# Altium footprint library qfp_footp.PcbLib: 36 footprints (part 2 of 4)
Each footprint in its own frame and in the unit in brackets; x right, y up, seen from the top. Pads: shape width x height; smd on the part's side, far side on the other; paste and mask are expansions set on the pad; w line width, h text height; cw(c..) or ccw(c..) is an arc to the next point about the centre after c.
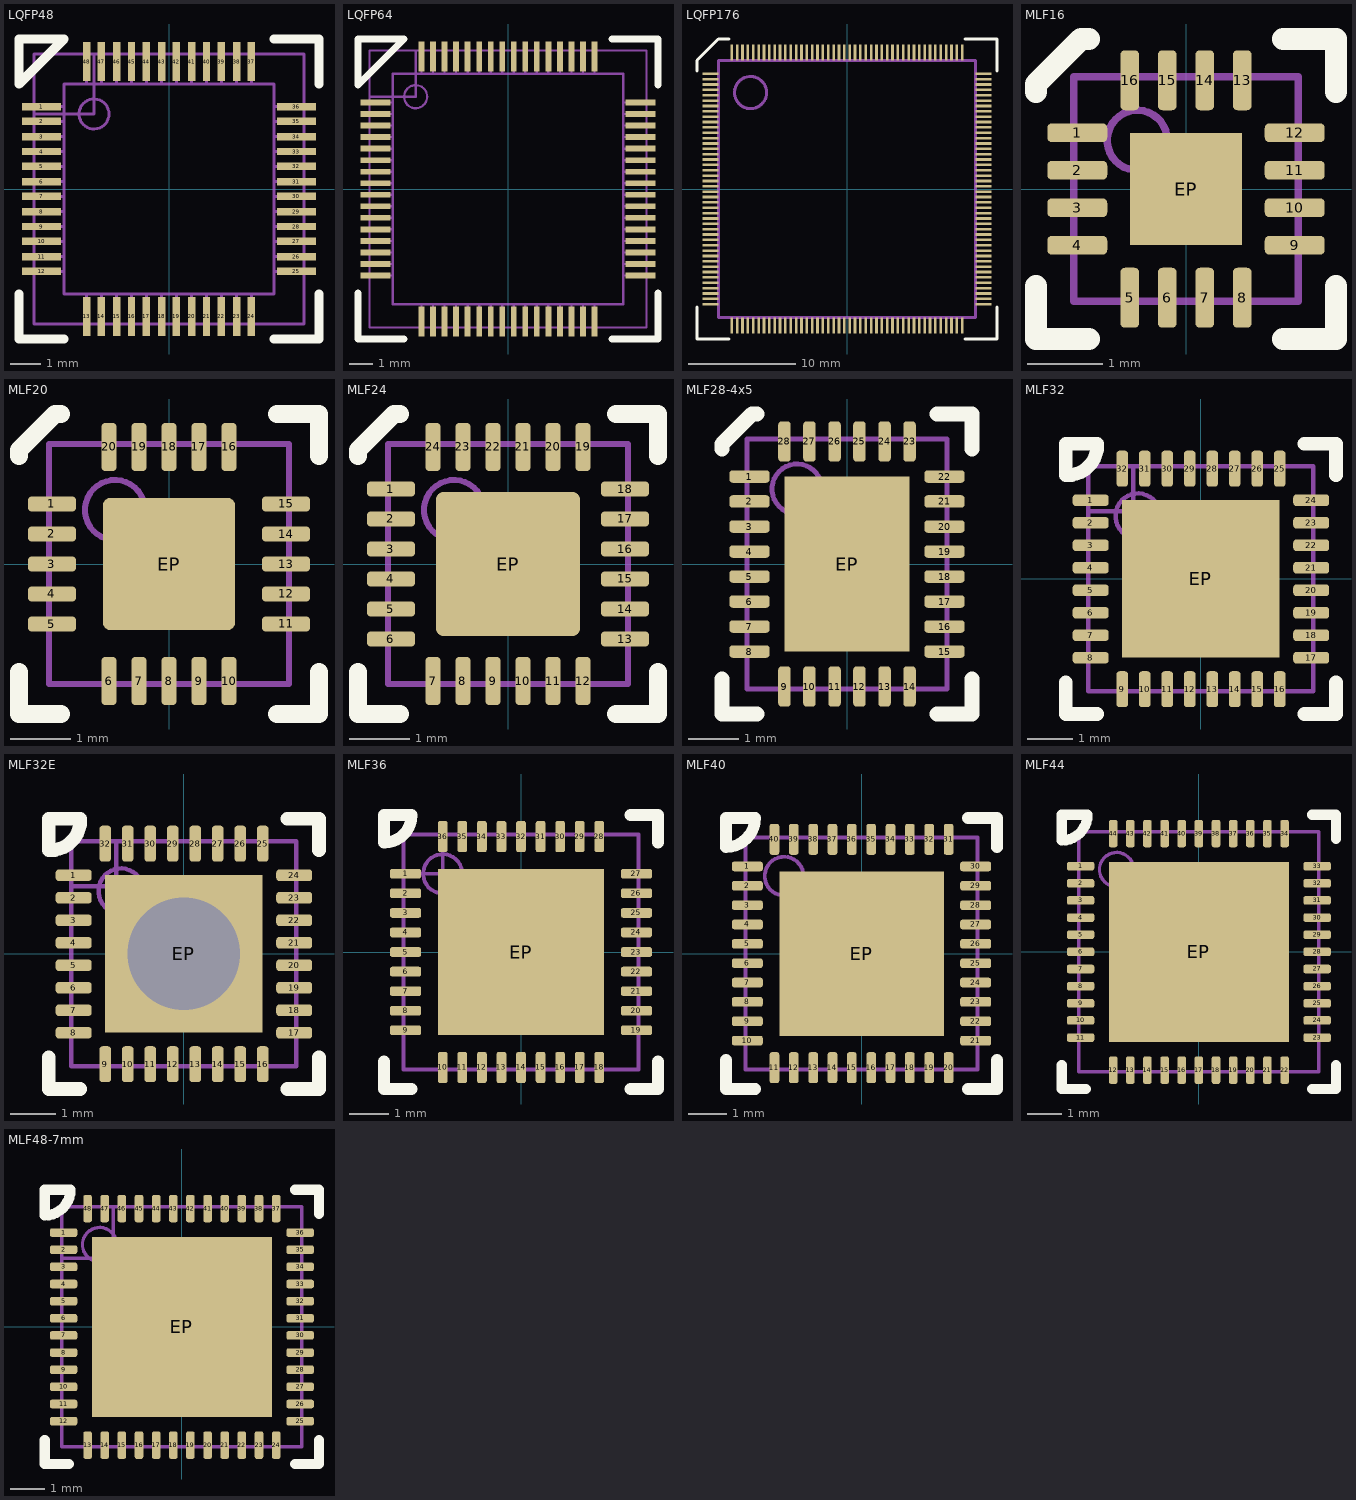
[diagram p1: the footprints below, top view; thin cyan lines are the x and y axes]

## LQFP48 [mm] "0.5 mm pitch"
height 1.6
pads (48):
  rect 1.3x0.25 smd: 1(-4.25,2.75) 2(-4.25,2.25) 3(-4.25,1.75) 4(-4.25,1.25) 5(-4.25,0.75) 6(-4.25,0.25) 7(-4.25,-0.25) 8(-4.25,-0.75) 9(-4.25,-1.25) 10(-4.25,-1.75) 11(-4.25,-2.25) 12(-4.25,-2.75) 25(4.25,-2.75) 26(4.25,-2.25) 27(4.25,-1.75) 28(4.25,-1.25) 29(4.25,-0.75) 30(4.25,-0.25) 31(4.25,0.25) 32(4.25,0.75) 33(4.25,1.25) 34(4.25,1.75) 35(4.25,2.25) 36(4.25,2.75)
  rect 0.25x1.3 smd: 13(-2.75,-4.25) 14(-2.25,-4.25) 15(-1.75,-4.25) 16(-1.25,-4.25) 17(-0.75,-4.25) 18(-0.25,-4.25) 19(0.25,-4.25) 20(0.75,-4.25) 21(1.25,-4.25) 22(1.75,-4.25) 23(2.25,-4.25) 24(2.75,-4.25) 37(2.75,4.25) 38(2.25,4.25) 39(1.75,4.25) 40(1.25,4.25) 41(0.75,4.25) 42(0.25,4.25) 43(-0.25,4.25) 44(-0.75,4.25) 45(-1.25,4.25) 46(-1.75,4.25) 47(-2.25,4.25) 48(-2.75,4.25)
Top Overlay:
  lines w0.3: -5,-3.5 -5,-5 -3.5,-5 ; 3.5,-5 5,-5 5,-3.5 ; 3.5,5 5,5 5,3.5 ; -5,3.5 -5,5 -3.5,5 -5,3.5
Mechanical 1:
  circle w0.1: c-2.5,2.5 r0.5
  lines w0.1: -4.5,-2.75 -3.5,-2.75 ; -4.5,-2.25 -3.5,-2.25 ; -4.5,-1.75 -3.5,-1.75 ; -4.5,-1.25 -3.5,-1.25 ; -4.5,-0.75 -3.5,-0.75 ; -4.5,-0.25 -3.5,-0.25 ; -4.5,0.25 -3.5,0.25 ; -4.5,0.75 -3.5,0.75 ; -4.5,1.25 -3.5,1.25 ; -4.5,1.75 -3.5,1.75 ; -4.5,2.25 -3.5,2.25 ; -4.5,2.75 -3.5,2.75 ; -2.75,-4.5 -2.75,-3.5 ; -2.75,3.5 -2.75,4.5 ; -2.25,-4.5 -2.25,-3.5 ; -2.25,3.5 -2.25,4.5 ; -1.75,-4.5 -1.75,-3.5 ; -1.75,3.5 -1.75,4.5 ; -1.25,-4.5 -1.25,-3.5 ; -1.25,3.5 -1.25,4.5 ; -0.75,-4.5 -0.75,-3.5 ; -0.75,3.5 -0.75,4.5 ; -0.25,-4.5 -0.25,-3.5 ; -0.25,3.5 -0.25,4.5 ; 0.25,-4.5 0.25,-3.5 ; 0.25,3.5 0.25,4.5 ; 0.75,-4.5 0.75,-3.5 ; 0.75,3.5 0.75,4.5 ; 1.25,-4.5 1.25,-3.5 ; 1.25,3.5 1.25,4.5 ; 1.75,-4.5 1.75,-3.5 ; 1.75,3.5 1.75,4.5 ; 2.25,-4.5 2.25,-3.5 ; 2.25,3.5 2.25,4.5 ; 2.75,-4.5 2.75,-3.5 ; 2.75,3.5 2.75,4.5 ; 3.5,-2.75 4.5,-2.75 ; 3.5,-2.25 4.5,-2.25 ; 3.5,-1.75 4.5,-1.75 ; 3.5,-1.25 4.5,-1.25 ; 3.5,-0.75 4.5,-0.75 ; 3.5,-0.25 4.5,-0.25 ; 3.5,0.25 4.5,0.25 ; 3.5,0.75 4.5,0.75 ; 3.5,1.25 4.5,1.25 ; 3.5,1.75 4.5,1.75 ; 3.5,2.25 4.5,2.25 ; 3.5,2.75 4.5,2.75 ; -3.5,-3.5 -3.5,3.5 3.5,3.5 3.5,-3.5 -3.5,-3.5
Mechanical 5:
  lines w0.1: -4.5,2.5 -2.5,2.5 -2.5,4.5 ; -4.5,-4.5 -4.5,4.5 4.5,4.5 4.5,-4.5 -4.5,-4.5
  text ".Designator" at -1.5,-1 h1.5
Mechanical 6:
  lines w0.1: -4.5,2.5 -2.5,2.5 -2.5,4.5 ; -4.5,-4.5 4.5,-4.5 4.5,4.5 -4.5,4.5 -4.5,-4.5
  text ".Comment" at -1.5,-1 h1.5
3D body: height 0.75, standoff 0, extent -4.5,2.65 -2.802,2.85
3D body: height 1.6, standoff 0.2, extent -3.5,-3.5 3.5,3.5
3D body: height 0.75, standoff 0, extent -4.5,2.15 -2.802,2.35
3D body: height 0.75, standoff 0, extent -4.5,1.15 -2.802,1.35
3D body: height 0.75, standoff 0, extent -4.5,1.65 -2.802,1.85
3D body: height 0.75, standoff 0, extent -4.5,-0.35 -2.802,-0.15
3D body: height 0.75, standoff 0, extent -4.5,-0.85 -2.802,-0.65
3D body: height 0.75, standoff 0, extent -4.5,0.15 -2.802,0.35
3D body: height 0.75, standoff 0, extent -4.5,0.65 -2.802,0.85
3D body: height 0.75, standoff 0, extent 1.15,-4.5 1.35,-2.802
3D body: height 0.75, standoff 0, extent 1.65,-4.5 1.85,-2.802
3D body: height 0.75, standoff 0, extent 2.65,-4.5 2.85,-2.802
3D body: height 0.75, standoff 0, extent 2.15,-4.5 2.35,-2.802
3D body: height 0.75, standoff 0, extent -0.85,-4.5 -0.65,-2.802
3D body: height 0.75, standoff 0, extent -0.35,-4.5 -0.15,-2.802
3D body: height 0.75, standoff 0, extent 0.65,-4.5 0.85,-2.802
3D body: height 0.75, standoff 0, extent 0.15,-4.5 0.35,-2.802
3D body: height 0.75, standoff 0, extent -1.85,-4.5 -1.65,-2.802
3D body: height 0.75, standoff 0, extent -1.35,-4.5 -1.15,-2.802
3D body: height 0.75, standoff 0, extent -2.35,-4.5 -2.15,-2.802
3D body: height 0.75, standoff 0, extent -2.85,-4.5 -2.65,-2.802
3D body: height 0.75, standoff 0, extent 2.802,1.15 4.5,1.35
3D body: height 0.75, standoff 0, extent 2.802,1.65 4.5,1.85
3D body: height 0.75, standoff 0, extent 2.802,2.65 4.5,2.85
3D body: height 0.75, standoff 0, extent 2.802,2.15 4.5,2.35
3D body: height 0.75, standoff 0, extent 2.802,-0.85 4.5,-0.65
3D body: height 0.75, standoff 0, extent 2.802,-0.35 4.5,-0.15
3D body: height 0.75, standoff 0, extent 2.802,0.65 4.5,0.85
3D body: height 0.75, standoff 0, extent 2.802,0.15 4.5,0.35
3D body: height 0.75, standoff 0, extent 2.802,-2.85 4.5,-2.65
3D body: height 0.75, standoff 0, extent 2.802,-2.35 4.5,-2.15
3D body: height 0.75, standoff 0, extent 2.802,-1.35 4.5,-1.15
3D body: height 0.75, standoff 0, extent 2.802,-1.85 4.5,-1.65
3D body: height 0.75, standoff 0, extent -1.35,2.802 -1.15,4.5
3D body: height 0.75, standoff 0, extent -1.85,2.802 -1.65,4.5
3D body: height 0.75, standoff 0, extent -2.85,2.802 -2.65,4.5
3D body: height 0.75, standoff 0, extent -2.35,2.802 -2.15,4.5
3D body: height 0.75, standoff 0, extent 0.65,2.802 0.85,4.5
3D body: height 0.75, standoff 0, extent 0.15,2.802 0.35,4.5
3D body: height 0.75, standoff 0, extent -0.85,2.802 -0.65,4.5
3D body: height 0.75, standoff 0, extent -0.35,2.802 -0.15,4.5
3D body: height 0.75, standoff 0, extent 2.65,2.802 2.85,4.5
3D body: height 0.75, standoff 0, extent 2.15,2.802 2.35,4.5
3D body: height 0.75, standoff 0, extent 1.15,2.802 1.35,4.5
3D body: height 0.75, standoff 0, extent 1.65,2.802 1.85,4.5
3D body: height 0.75, standoff 0, extent -4.5,-1.35 -2.802,-1.15
3D body: height 0.75, standoff 0, extent -4.5,-1.85 -2.802,-1.65
3D body: height 0.75, standoff 0, extent -4.5,-2.85 -2.802,-2.65
3D body: height 0.75, standoff 0, extent -4.5,-2.35 -2.802,-2.15

## LQFP64 [mm] "0.5 mm pitch"
height 1.6
pads (64):
  rect 1.3x0.25 smd: 1(-5.75,3.75) 2(-5.75,3.25) 3(-5.75,2.75) 4(-5.75,2.25) 5(-5.75,1.75) 6(-5.75,1.25) 7(-5.75,0.75) 8(-5.75,0.25) 9(-5.75,-0.25) 10(-5.75,-0.75) 11(-5.75,-1.25) 12(-5.75,-1.75) 13(-5.75,-2.25) 14(-5.75,-2.75) 15(-5.75,-3.25) 16(-5.75,-3.75) 33(5.75,-3.75) 34(5.75,-3.25) 35(5.75,-2.75) 36(5.75,-2.25) 37(5.75,-1.75) 38(5.75,-1.25) 39(5.75,-0.75) 40(5.75,-0.25) 41(5.75,0.25) 42(5.75,0.75) 43(5.75,1.25) 44(5.75,1.75) 45(5.75,2.25) 46(5.75,2.75) 47(5.75,3.25) 48(5.75,3.75)
  rect 0.25x1.3 smd: 17(-3.75,-5.75) 18(-3.25,-5.75) 19(-2.75,-5.75) 20(-2.25,-5.75) 21(-1.75,-5.75) 22(-1.25,-5.75) 23(-0.75,-5.75) 24(-0.25,-5.75) 25(0.25,-5.75) 26(0.75,-5.75) 27(1.25,-5.75) 28(1.75,-5.75) 29(2.25,-5.75) 30(2.75,-5.75) 31(3.25,-5.75) 32(3.75,-5.75) 49(3.75,5.75) 50(3.25,5.75) 51(2.75,5.75) 52(2.25,5.75) 53(1.75,5.75) 54(1.25,5.75) 55(0.75,5.75) 56(0.25,5.75) 57(-0.25,5.75) 58(-0.75,5.75) 59(-1.25,5.75) 60(-1.75,5.75) 61(-2.25,5.75) 62(-2.75,5.75) 63(-3.25,5.75) 64(-3.75,5.75)
Top Overlay:
  lines w0.3: -6.5,-4.5 -6.5,-6.5 -4.5,-6.5 ; 4.5,-6.5 6.5,-6.5 6.5,-4.5 ; 4.5,6.5 6.5,6.5 6.5,4.5 ; -6.5,4.5 -6.5,6.5 -4.5,6.5 -6.5,4.5
Mechanical 1:
  circle w0.1: c-4,4 r0.5
  lines w0.1: -6,-3.75 -5,-3.75 ; -6,-3.25 -5,-3.25 ; -6,-2.75 -5,-2.75 ; -6,-2.25 -5,-2.25 ; -6,-1.75 -5,-1.75 ; -6,-1.25 -5,-1.25 ; -6,-0.75 -5,-0.75 ; -6,-0.25 -5,-0.25 ; -6,0.25 -5,0.25 ; -6,0.75 -5,0.75 ; -6,1.25 -5,1.25 ; -6,1.75 -5,1.75 ; -6,2.25 -5,2.25 ; -6,2.75 -5,2.75 ; -6,3.25 -5,3.25 ; -6,3.75 -5,3.75 ; -3.75,-6 -3.75,-5 ; -3.75,5 -3.75,6 ; -3.25,-6 -3.25,-5 ; -3.25,5 -3.25,6 ; -2.75,-6 -2.75,-5 ; -2.75,5 -2.75,6 ; -2.25,-6 -2.25,-5 ; -2.25,5 -2.25,6 ; -1.75,-6 -1.75,-5 ; -1.75,5 -1.75,6 ; -1.25,-6 -1.25,-5 ; -1.25,5 -1.25,6 ; -0.75,-6 -0.75,-5 ; -0.75,5 -0.75,6 ; -0.25,-6 -0.25,-5 ; -0.25,5 -0.25,6 ; 0.25,-6 0.25,-5 ; 0.25,5 0.25,6 ; 0.75,-6 0.75,-5 ; 0.75,5 0.75,6 ; 1.25,-6 1.25,-5 ; 1.25,5 1.25,6 ; 1.75,-6 1.75,-5 ; 1.75,5 1.75,6 ; 2.25,-6 2.25,-5 ; 2.25,5 2.25,6 ; 2.75,-6 2.75,-5 ; 2.75,5 2.75,6 ; 3.25,-6 3.25,-5 ; 3.25,5 3.25,6 ; 3.75,-6 3.75,-5 ; 3.75,5 3.75,6 ; 5,-3.75 6,-3.75 ; 5,-3.25 6,-3.25 ; 5,-2.75 6,-2.75 ; 5,-2.25 6,-2.25 ; 5,-1.75 6,-1.75 ; 5,-1.25 6,-1.25 ; 5,-0.75 6,-0.75 ; 5,-0.25 6,-0.25 ; 5,0.25 6,0.25 ; 5,0.75 6,0.75 ; 5,1.25 6,1.25 ; 5,1.75 6,1.75 ; 5,2.25 6,2.25 ; 5,2.75 6,2.75 ; 5,3.25 6,3.25 ; 5,3.75 6,3.75 ; -5,-5 -5,5 5,5 5,-5 -5,-5
Mechanical 5:
  lines w0.1: -6,4 -4,4 -4,6 ; -6,-6 -6,6 6,6 6,-6 -6,-6
  text ".Designator" at -1.5,-1 h1.5
Mechanical 6:
  lines w0.1: -6,4 -4,4 -4,6 ; -6,-6 6,-6 6,6 -6,6 -6,-6
  text ".Comment" at -1.5,-1 h1.5
3D body: height 0.75, standoff 0, extent -6,3.65 -4.302,3.85
3D body: height 1.6, standoff 0.2, extent -5,-5 5,5
3D body: height 0.75, standoff 0, extent -6,3.15 -4.302,3.35
3D body: height 0.75, standoff 0, extent -6,2.15 -4.302,2.35
3D body: height 0.75, standoff 0, extent -6,2.65 -4.302,2.85
3D body: height 0.75, standoff 0, extent -6,0.65 -4.302,0.85
3D body: height 0.75, standoff 0, extent -6,0.15 -4.302,0.35
3D body: height 0.75, standoff 0, extent -6,1.15 -4.302,1.35
3D body: height 0.75, standoff 0, extent -6,1.65 -4.302,1.85
3D body: height 0.75, standoff 0, extent -6,-1.35 -4.302,-1.15
3D body: height 0.75, standoff 0, extent -6,-1.85 -4.302,-1.65
3D body: height 0.75, standoff 0, extent -6,-0.85 -4.302,-0.65
3D body: height 0.75, standoff 0, extent -6,-0.35 -4.302,-0.15
3D body: height 0.75, standoff 0, extent -6,-3.35 -4.302,-3.15
3D body: height 0.75, standoff 0, extent -6,-3.85 -4.302,-3.65
3D body: height 0.75, standoff 0, extent -6,-2.85 -4.302,-2.65
3D body: height 0.75, standoff 0, extent -6,-2.35 -4.302,-2.15
3D body: height 0.75, standoff 0, extent 2.15,-6 2.35,-4.302
3D body: height 0.75, standoff 0, extent 2.65,-6 2.85,-4.302
3D body: height 0.75, standoff 0, extent 3.65,-6 3.85,-4.302
3D body: height 0.75, standoff 0, extent 3.15,-6 3.35,-4.302
3D body: height 0.75, standoff 0, extent 0.15,-6 0.35,-4.302
3D body: height 0.75, standoff 0, extent 0.65,-6 0.85,-4.302
3D body: height 0.75, standoff 0, extent 1.65,-6 1.85,-4.302
3D body: height 0.75, standoff 0, extent 1.15,-6 1.35,-4.302
3D body: height 0.75, standoff 0, extent -1.85,-6 -1.65,-4.302
3D body: height 0.75, standoff 0, extent -1.35,-6 -1.15,-4.302
3D body: height 0.75, standoff 0, extent -0.35,-6 -0.15,-4.302
3D body: height 0.75, standoff 0, extent -0.85,-6 -0.65,-4.302
3D body: height 0.75, standoff 0, extent -2.85,-6 -2.65,-4.302
3D body: height 0.75, standoff 0, extent -2.35,-6 -2.15,-4.302
3D body: height 0.75, standoff 0, extent -3.35,-6 -3.15,-4.302
3D body: height 0.75, standoff 0, extent -3.85,-6 -3.65,-4.302
3D body: height 0.75, standoff 0, extent 4.302,2.15 6,2.35
3D body: height 0.75, standoff 0, extent 4.302,2.65 6,2.85
3D body: height 0.75, standoff 0, extent 4.302,3.65 6,3.85
3D body: height 0.75, standoff 0, extent 4.302,3.15 6,3.35
3D body: height 0.75, standoff 0, extent 4.302,0.15 6,0.35
3D body: height 0.75, standoff 0, extent 4.302,0.65 6,0.85
3D body: height 0.75, standoff 0, extent 4.302,1.65 6,1.85
3D body: height 0.75, standoff 0, extent 4.302,1.15 6,1.35
3D body: height 0.75, standoff 0, extent 4.302,-1.85 6,-1.65
3D body: height 0.75, standoff 0, extent 4.302,-1.35 6,-1.15
3D body: height 0.75, standoff 0, extent 4.302,-0.35 6,-0.15
3D body: height 0.75, standoff 0, extent 4.302,-0.85 6,-0.65
3D body: height 0.75, standoff 0, extent 4.302,-2.85 6,-2.65
3D body: height 0.75, standoff 0, extent 4.302,-2.35 6,-2.15
3D body: height 0.75, standoff 0, extent 4.302,-3.35 6,-3.15
3D body: height 0.75, standoff 0, extent 4.302,-3.85 6,-3.65
3D body: height 0.75, standoff 0, extent -2.35,4.302 -2.15,6
3D body: height 0.75, standoff 0, extent -2.85,4.302 -2.65,6
3D body: height 0.75, standoff 0, extent -3.85,4.302 -3.65,6
3D body: height 0.75, standoff 0, extent -3.35,4.302 -3.15,6
3D body: height 0.75, standoff 0, extent -0.35,4.302 -0.15,6
3D body: height 0.75, standoff 0, extent -0.85,4.302 -0.65,6
3D body: height 0.75, standoff 0, extent -1.85,4.302 -1.65,6
3D body: height 0.75, standoff 0, extent -1.35,4.302 -1.15,6
3D body: height 0.75, standoff 0, extent 1.65,4.302 1.85,6
3D body: height 0.75, standoff 0, extent 1.15,4.302 1.35,6
3D body: height 0.75, standoff 0, extent 0.15,4.302 0.35,6
3D body: height 0.75, standoff 0, extent 0.65,4.302 0.85,6
3D body: height 0.75, standoff 0, extent 2.65,4.302 2.85,6
3D body: height 0.75, standoff 0, extent 2.15,4.302 2.35,6
3D body: height 0.75, standoff 0, extent 3.15,4.302 3.35,6
3D body: height 0.75, standoff 0, extent 3.65,4.302 3.85,6

## LQFP176 [mm]
pads (176):
  rect 1.5x0.25 smd: 1(-12.75,10.75) 2(-12.75,10.25) 3(-12.75,9.75) 4(-12.75,9.25) 5(-12.75,8.75) 6(-12.75,8.25) 7(-12.75,7.75) 8(-12.75,7.25) 9(-12.75,6.75) 10(-12.75,6.25) 11(-12.75,5.75) 12(-12.75,5.25) 13(-12.75,4.75) 14(-12.75,4.25) 15(-12.75,3.75) 16(-12.75,3.25) 17(-12.75,2.75) 18(-12.75,2.25) 19(-12.75,1.75) 20(-12.75,1.25) 21(-12.75,0.75) 22(-12.75,0.25) 23(-12.75,-0.25) 24(-12.75,-0.75) 25(-12.75,-1.25) 26(-12.75,-1.75) 27(-12.75,-2.25) 28(-12.75,-2.75) 29(-12.75,-3.25) 30(-12.75,-3.75) 31(-12.75,-4.25) 32(-12.75,-4.75) 33(-12.75,-5.25) 34(-12.75,-5.75) 35(-12.75,-6.25) 36(-12.75,-6.75) 37(-12.75,-7.25) 38(-12.75,-7.75) 39(-12.75,-8.25) 40(-12.75,-8.75) 41(-12.75,-9.25) 42(-12.75,-9.75) 43(-12.75,-10.25) 44(-12.75,-10.75) 89(12.75,-10.75) 90(12.75,-10.25) 91(12.75,-9.75) 92(12.75,-9.25) 93(12.75,-8.75) 94(12.75,-8.25) 95(12.75,-7.75) 96(12.75,-7.25) 97(12.75,-6.75) 98(12.75,-6.25) 99(12.75,-5.75) 100(12.75,-5.25) 101(12.75,-4.75) 102(12.75,-4.25) 103(12.75,-3.75) 104(12.75,-3.25) 105(12.75,-2.75) 106(12.75,-2.25) 107(12.75,-1.75) 108(12.75,-1.25) 109(12.75,-0.75) 110(12.75,-0.25) 111(12.75,0.25) 112(12.75,0.75) 113(12.75,1.25) 114(12.75,1.75) 115(12.75,2.25) 116(12.75,2.75) 117(12.75,3.25) 118(12.75,3.75) 119(12.75,4.25) 120(12.75,4.75) 121(12.75,5.25) 122(12.75,5.75) 123(12.75,6.25) 124(12.75,6.75) 125(12.75,7.25) 126(12.75,7.75) 127(12.75,8.25) 128(12.75,8.75) 129(12.75,9.25) 130(12.75,9.75) 131(12.75,10.25) 132(12.75,10.75)
  rect 0.25x1.5 smd: 45(-10.75,-12.75) 46(-10.25,-12.75) 47(-9.75,-12.75) 48(-9.25,-12.75) 49(-8.75,-12.75) 50(-8.25,-12.75) 51(-7.75,-12.75) 52(-7.25,-12.75) 53(-6.75,-12.75) 54(-6.25,-12.75) 55(-5.75,-12.75) 56(-5.25,-12.75) 57(-4.75,-12.75) 58(-4.25,-12.75) 59(-3.75,-12.75) 60(-3.25,-12.75) 61(-2.75,-12.75) 62(-2.25,-12.75) 63(-1.75,-12.75) 64(-1.25,-12.75) 65(-0.75,-12.75) 66(-0.25,-12.75) 67(0.25,-12.75) 68(0.75,-12.75) 69(1.25,-12.75) 70(1.75,-12.75) 71(2.25,-12.75) 72(2.75,-12.75) 73(3.25,-12.75) 74(3.75,-12.75) 75(4.25,-12.75) 76(4.75,-12.75) 77(5.25,-12.75) 78(5.75,-12.75) 79(6.25,-12.75) 80(6.75,-12.75) 81(7.25,-12.75) 82(7.75,-12.75) 83(8.25,-12.75) 84(8.75,-12.75) 85(9.25,-12.75) 86(9.75,-12.75) 87(10.25,-12.75) 88(10.75,-12.75) 133(10.75,12.75) 134(10.25,12.75) 135(9.75,12.75) 136(9.25,12.75) 137(8.75,12.75) 138(8.25,12.75) 139(7.75,12.75) 140(7.25,12.75) 141(6.75,12.75) 142(6.25,12.75) 143(5.75,12.75) 144(5.25,12.75) 145(4.75,12.75) 146(4.25,12.75) 147(3.75,12.75) 148(3.25,12.75) 149(2.75,12.75) 150(2.25,12.75) 151(1.75,12.75) 152(1.25,12.75) 153(0.75,12.75) 154(0.25,12.75) 155(-0.25,12.75) 156(-0.75,12.75) 157(-1.25,12.75) 158(-1.75,12.75) 159(-2.25,12.75) 160(-2.75,12.75) 161(-3.25,12.75) 162(-3.75,12.75) 163(-4.25,12.75) 164(-4.75,12.75) 165(-5.25,12.75) 166(-5.75,12.75) 167(-6.25,12.75) 168(-6.75,12.75) 169(-7.25,12.75) 170(-7.75,12.75) 171(-8.25,12.75) 172(-8.75,12.75) 173(-9.25,12.75) 174(-9.75,12.75) 175(-10.25,12.75) 176(-10.75,12.75)
Top Overlay:
  lines w0.3: -14,-11 -14,-14 -11,-14 ; -14,11 -14,12 -12,14 -11,14 ; 11,-14 14,-14 14,-11 ; 11,14 14,14 14,11
Mechanical 1:
  circle w0.3: c-9,9 r1.5
  lines w0.3: -12,-12 -12,12 12,12 12,-12 -12,-12

## MLF16 [mm]
height 1
pads (17):
  rrect50% 0.8x0.25 smd: 1(-1.45,0.75) 2(-1.45,0.25) 3(-1.45,-0.25) 4(-1.45,-0.75) 9(1.45,-0.75) 10(1.45,-0.25) 11(1.45,0.25) 12(1.45,0.75)
  rrect50% 0.25x0.8 smd: 5(-0.75,-1.45) 6(-0.25,-1.45) 7(0.25,-1.45) 8(0.75,-1.45) 13(0.75,1.45) 14(0.25,1.45) 15(-0.25,1.45) 16(-0.75,1.45)
  rect 1.5x1.5 smd paste-0.3: EP(0,0)
Top Overlay:
  lines w0.3: -2,-1.3 -2,-2 -1.3,-2 ; -2,1.3 -2,1.4 -1.4,2 -1.3,2 ; 1.3,-2 2,-2 2,-1.3 ; 1.3,2 2,2 2,1.3
Mechanical 1:
  circle w0.1: c-0.65,0.65 r0.4
  lines w0.1: -1.5,-1.5 -1.5,1.5 1.5,1.5 1.5,-1.5 -1.5,-1.5
3D body: height 0.2, standoff 0, extent -1.55,0.125 -1.45,0.375
3D body: height 0.2, standoff 0, extent -1.55,0.625 -1.45,0.875
3D body: height 0.2, standoff 0, extent -1.55,-0.875 -1.45,-0.625
3D body: height 0.2, standoff 0, extent -1.55,-0.375 -1.45,-0.125
3D body: height 0.2, standoff 0, extent 0.125,-1.55 0.375,-1.45
3D body: height 0.2, standoff 0, extent 0.625,-1.55 0.875,-1.45
3D body: height 0.2, standoff 0, extent -0.875,-1.55 -0.625,-1.45
3D body: height 0.2, standoff 0, extent -0.375,-1.55 -0.125,-1.45
3D body: height 0.2, standoff 0, extent 1.45,0.125 1.55,0.375
3D body: height 0.2, standoff 0, extent 1.45,0.625 1.55,0.875
3D body: height 0.2, standoff 0, extent 1.45,-0.875 1.55,-0.625
3D body: height 0.2, standoff 0, extent 1.45,-0.375 1.55,-0.125
3D body: height 0.2, standoff 0, extent -0.375,1.45 -0.125,1.55
3D body: height 0.2, standoff 0, extent -0.875,1.45 -0.625,1.55
3D body: height 0.2, standoff 0, extent 0.625,1.45 0.875,1.55
3D body: height 0.2, standoff 0, extent 0.125,1.45 0.375,1.55
3D body: height 0.8, standoff 0, extent -1.5,-1.5 1.5,1.5

## MLF20 [mm]
height 1
pads (21):
  rrect50% 0.8x0.25 smd: 1(-1.95,1) 2(-1.95,0.5) 3(-1.95,0) 4(-1.95,-0.5) 5(-1.95,-1) 11(1.95,-1) 12(1.95,-0.5) 13(1.95,0) 14(1.95,0.5) 15(1.95,1)
  rrect50% 0.25x0.8 smd: 6(-1,-1.95) 7(-0.5,-1.95) 8(0,-1.95) 9(0.5,-1.95) 10(1,-1.95) 16(1,1.95) 17(0.5,1.95) 18(0,1.95) 19(-0.5,1.95) 20(-1,1.95)
  rrect10% 2.2x2.2 smd paste-2: EP(0,0)
Top Overlay:
  lines w0.3: -2.5,-1.8 -2.5,-2.5 -1.8,-2.5 ; -2.5,1.8 -2.5,1.9 -1.9,2.5 -1.8,2.5 ; 1.8,-2.5 2.5,-2.5 2.5,-1.8 ; 1.8,2.5 2.5,2.5 2.5,1.8
Top Paste:
  rectangle: 0.2,-1 1,-0.2
  rectangle: -1,-1 -0.2,-0.2
  rectangle: 0.2,0.2 1,1
  rectangle: -1,0.2 -0.2,1
Mechanical 1:
  circle w0.1: c-0.9,0.9 r0.5
  lines w0.1: -2,-2 2,-2 2,2 -2,2 -2,-2
3D body: height 0.2, standoff 0, extent -0.625,1.95 -0.375,2.05
3D body: height 0.2, standoff 0, extent -0.125,1.95 0.125,2.05
3D body: height 0.2, standoff 0, extent -1.125,1.95 -0.875,2.05
3D body: height 0.8, standoff 0, extent -2,-2 2,2
3D body: height 0.2, standoff 0, extent 0.875,1.95 1.125,2.05
3D body: height 0.2, standoff 0, extent 0.375,1.95 0.625,2.05
3D body: height 0.2, standoff 0, extent -2.05,0.375 -1.95,0.625
3D body: height 0.2, standoff 0, extent -2.05,0.875 -1.95,1.125
3D body: height 0.2, standoff 0, extent -2.05,-1.125 -1.95,-0.875
3D body: height 0.2, standoff 0, extent -2.05,-0.125 -1.95,0.125
3D body: height 0.2, standoff 0, extent -2.05,-0.625 -1.95,-0.375
3D body: height 0.2, standoff 0, extent -0.625,-2.05 -0.375,-1.95
3D body: height 0.2, standoff 0, extent -1.125,-2.05 -0.875,-1.95
3D body: height 0.2, standoff 0, extent 0.875,-2.05 1.125,-1.95
3D body: height 0.2, standoff 0, extent -0.125,-2.05 0.125,-1.95
3D body: height 0.2, standoff 0, extent 0.375,-2.05 0.625,-1.95
3D body: height 0.2, standoff 0, extent 1.95,-1.125 2.05,-0.875
3D body: height 0.2, standoff 0, extent 1.95,0.375 2.05,0.625
3D body: height 0.2, standoff 0, extent 1.95,0.875 2.05,1.125
3D body: height 0.2, standoff 0, extent 1.95,-0.625 2.05,-0.375
3D body: height 0.2, standoff 0, extent 1.95,-0.125 2.05,0.125

## MLF24 [mm]
height 1
pads (25):
  rrect50% 0.8x0.25 smd: 1(-1.95,1.25) 2(-1.95,0.75) 3(-1.95,0.25) 4(-1.95,-0.25) 5(-1.95,-0.75) 6(-1.95,-1.25) 13(1.95,-1.25) 14(1.95,-0.75) 15(1.95,-0.25) 16(1.95,0.25) 17(1.95,0.75) 18(1.95,1.25)
  rrect50% 0.25x0.8 smd: 7(-1.25,-1.95) 8(-0.75,-1.95) 9(-0.25,-1.95) 10(0.25,-1.95) 11(0.75,-1.95) 12(1.25,-1.95) 19(1.25,1.95) 20(0.75,1.95) 21(0.25,1.95) 22(-0.25,1.95) 23(-0.75,1.95) 24(-1.25,1.95)
  rrect10% 2.4x2.4 smd paste-2: EP(0,0)
Top Overlay:
  lines w0.3: -2.5,-1.8 -2.5,-2.5 -1.8,-2.5 ; -2.5,1.8 -2.5,1.9 -1.9,2.5 -1.8,2.5 ; 1.8,-2.5 2.5,-2.5 2.5,-1.8 ; 1.8,2.5 2.5,2.5 2.5,1.8
Top Paste:
  rectangle: -1,0.2 -0.2,1
  rectangle: 0.2,0.2 1,1
  rectangle: -1,-1 -0.2,-0.2
  rectangle: 0.2,-1 1,-0.2
Mechanical 1:
  circle w0.1: c-0.9,0.9 r0.5
  lines w0.1: -2,-2 -2,2 2,2 2,-2 -2,-2
3D body: height 0.2, standoff 0, extent 1.95,0.125 2.05,0.375
3D body: height 0.2, standoff 0, extent 1.95,-0.375 2.05,-0.125
3D body: height 0.2, standoff 0, extent 1.95,1.125 2.05,1.375
3D body: height 0.2, standoff 0, extent 1.95,0.625 2.05,0.875
3D body: height 0.2, standoff 0, extent 1.95,-1.375 2.05,-1.125
3D body: height 0.2, standoff 0, extent 1.95,-0.875 2.05,-0.625
3D body: height 0.2, standoff 0, extent 0.125,-2.05 0.375,-1.95
3D body: height 0.2, standoff 0, extent -0.375,-2.05 -0.125,-1.95
3D body: height 0.2, standoff 0, extent 1.125,-2.05 1.375,-1.95
3D body: height 0.2, standoff 0, extent 0.625,-2.05 0.875,-1.95
3D body: height 0.2, standoff 0, extent -1.375,-2.05 -1.125,-1.95
3D body: height 0.2, standoff 0, extent -0.875,-2.05 -0.625,-1.95
3D body: height 0.2, standoff 0, extent -2.05,-0.375 -1.95,-0.125
3D body: height 0.2, standoff 0, extent -2.05,0.125 -1.95,0.375
3D body: height 0.2, standoff 0, extent -2.05,-1.375 -1.95,-1.125
3D body: height 0.2, standoff 0, extent -2.05,-0.875 -1.95,-0.625
3D body: height 0.2, standoff 0, extent -2.05,1.125 -1.95,1.375
3D body: height 0.2, standoff 0, extent -2.05,0.625 -1.95,0.875
3D body: height 0.2, standoff 0, extent 0.625,1.95 0.875,2.05
3D body: height 0.2, standoff 0, extent 1.125,1.95 1.375,2.05
3D body: height 0.8, standoff 0, extent -2,-2 2,2
3D body: height 0.2, standoff 0, extent -0.875,1.95 -0.625,2.05
3D body: height 0.2, standoff 0, extent -1.375,1.95 -1.125,2.05
3D body: height 0.2, standoff 0, extent 0.125,1.95 0.375,2.05
3D body: height 0.2, standoff 0, extent -0.375,1.95 -0.125,2.05

## MLF28-4x5 [mm]
height 1
pads (29):
  rrect50% 0.8x0.25 smd: 1(-1.95,1.75) 2(-1.95,1.25) 3(-1.95,0.75) 4(-1.95,0.25) 5(-1.95,-0.25) 6(-1.95,-0.75) 7(-1.95,-1.25) 8(-1.95,-1.75) 15(1.95,-1.75) 16(1.95,-1.25) 17(1.95,-0.75) 18(1.95,-0.25) 19(1.95,0.25) 20(1.95,0.75) 21(1.95,1.25) 22(1.95,1.75)
  rrect50% 0.25x0.8 smd: 9(-1.25,-2.45) 10(-0.75,-2.45) 11(-0.25,-2.45) 12(0.25,-2.45) 13(0.75,-2.45) 14(1.25,-2.45) 23(1.25,2.45) 24(0.75,2.45) 25(0.25,2.45) 26(-0.25,2.45) 27(-0.75,2.45) 28(-1.25,2.45)
  rect 2.5x3.5 smd paste-2: EP(0,0)
Top Overlay:
  lines w0.3: -2.5,-2.3 -2.5,-3 -1.8,-3 ; -2.5,2.3 -2.5,2.4 -1.9,3 -1.8,3 ; 1.8,-3 2.5,-3 2.5,-2.3 ; 1.8,3 2.5,3 2.5,2.3
Top Paste:
  rectangle: 0.2,0.7 1,1.5
  rectangle: -1,0.7 -0.2,1.5
  rectangle: 0.2,-1.5 1,-0.7
  rectangle: -1,-1.5 -0.2,-0.7
  rectangle: 0.2,-0.3 1,0.3
  rectangle: -1,-0.3 -0.2,0.3
Mechanical 1:
  circle w0.1: c-1,1.5 r0.5
  lines w0.1: -2,-2.5 2,-2.5 2,2.5 -2,2.5 -2,-2.5
3D body: height 0.2, standoff 0, extent -2.05,-1.375 -1.95,-1.125
3D body: height 0.2, standoff 0, extent -2.05,-1.875 -1.95,-1.625
3D body: height 0.2, standoff 0, extent 1.95,-1.375 2.05,-1.125
3D body: height 0.2, standoff 0, extent 1.95,-1.875 2.05,-1.625
3D body: height 0.2, standoff 0, extent 1.95,0.625 2.05,0.875
3D body: height 0.2, standoff 0, extent 1.95,0.125 2.05,0.375
3D body: height 0.2, standoff 0, extent 1.95,1.625 2.05,1.875
3D body: height 0.2, standoff 0, extent 1.95,1.125 2.05,1.375
3D body: height 0.2, standoff 0, extent 1.95,-0.875 2.05,-0.625
3D body: height 0.2, standoff 0, extent 1.95,-0.375 2.05,-0.125
3D body: height 0.2, standoff 0, extent -2.05,0.125 -1.95,0.375
3D body: height 0.2, standoff 0, extent -2.05,0.625 -1.95,0.875
3D body: height 0.2, standoff 0, extent -2.05,-0.875 -1.95,-0.625
3D body: height 0.2, standoff 0, extent -2.05,-0.375 -1.95,-0.125
3D body: height 0.2, standoff 0, extent -2.05,1.625 -1.95,1.875
3D body: height 0.2, standoff 0, extent -2.05,1.125 -1.95,1.375
3D body: height 0.2, standoff 0, extent 0.625,-2.55 0.875,-2.45
3D body: height 0.2, standoff 0, extent 1.125,-2.55 1.375,-2.45
3D body: height 0.2, standoff 0, extent -0.875,-2.55 -0.625,-2.45
3D body: height 0.2, standoff 0, extent -1.375,-2.55 -1.125,-2.45
3D body: height 0.2, standoff 0, extent 0.125,-2.55 0.375,-2.45
3D body: height 0.2, standoff 0, extent -0.375,-2.55 -0.125,-2.45
3D body: height 0.2, standoff 0, extent 0.625,2.45 0.875,2.55
3D body: height 0.2, standoff 0, extent 1.125,2.45 1.375,2.55
3D body: height 0.2, standoff 0, extent -0.875,2.45 -0.625,2.55
3D body: height 0.2, standoff 0, extent -1.375,2.45 -1.125,2.55
3D body: height 0.2, standoff 0, extent 0.125,2.45 0.375,2.55
3D body: height 0.2, standoff 0, extent -0.375,2.45 -0.125,2.55
3D body: height 0.8, standoff 0, extent -2,-2.5 2,2.5

## MLF32 [mm]
height 1
pads (33):
  rrect50% 0.8x0.25 smd: 1(-2.45,1.75) 2(-2.45,1.25) 3(-2.45,0.75) 4(-2.45,0.25) 5(-2.45,-0.25) 6(-2.45,-0.75) 7(-2.45,-1.25) 8(-2.45,-1.75) 17(2.45,-1.75) 18(2.45,-1.25) 19(2.45,-0.75) 20(2.45,-0.25) 21(2.45,0.25) 22(2.45,0.75) 23(2.45,1.25) 24(2.45,1.75)
  rrect50% 0.25x0.8 smd: 9(-1.75,-2.45) 10(-1.25,-2.45) 11(-0.75,-2.45) 12(-0.25,-2.45) 13(0.25,-2.45) 14(0.75,-2.45) 15(1.25,-2.45) 16(1.75,-2.45) 25(1.75,2.45) 26(1.25,2.45) 27(0.75,2.45) 28(0.25,2.45) 29(-0.25,2.45) 30(-0.75,2.45) 31(-1.25,2.45) 32(-1.75,2.45)
  rect 3.5x3.5 smd paste-3: EP(0,0)
Top Overlay:
  lines w0.3: -3,-2.3 -3,-3 -2.3,-3 ; -2.3,2.983 cw(c-2.983,2.983) -2.5,2.5 cw(c-2.983,2.983) -2.983,2.3 -3,2.3 -3,3 -2.3,3 ; 2.3,-3 3,-3 3,-2.3 ; 2.3,3 3,3 3,2.3
Top Paste:
  rectangle: -1.4,0.4 -0.4,1.4
  rectangle: 0.4,0.4 1.4,1.4
  rectangle: 0.4,-1.4 1.4,-0.4
  rectangle: -1.4,-1.4 -0.4,-0.4
Mechanical 1:
  circle w0.1: c-1.4,1.4 r0.5
  lines w0.1: -2.5,-2.5 -2.5,2.5 2.5,2.5 2.5,-2.5 -2.5,-2.5
Mechanical 5:
  lines w0.1: -2.5,1.5 -1.5,1.5 -1.5,2.5 ; -2.5,-2.5 2.5,-2.5 2.5,2.5 -2.5,2.5 -2.5,-2.5
  text ".Designator" at -1.5,-1 h1.5
Mechanical 6:
  lines w0.1: -2.5,1.5 -1.5,1.5 -1.5,2.5 ; -2.5,-2.5 -2.5,2.5 2.5,2.5 2.5,-2.5 -2.5,-2.5
  text ".Comment" at -1.5,-1 h1.5
3D body: height 0.2, standoff 0, extent -0.875,2.45 -0.625,2.55
3D body: height 0.2, standoff 0, extent -0.375,2.45 -0.125,2.55
3D body: height 0.2, standoff 0, extent -1.875,2.45 -1.625,2.55
3D body: height 0.2, standoff 0, extent -1.375,2.45 -1.125,2.55
3D body: height 0.2, standoff 0, extent 0.625,2.45 0.875,2.55
3D body: height 0.2, standoff 0, extent 0.125,2.45 0.375,2.55
3D body: height 0.2, standoff 0, extent -2.55,1.125 -2.45,1.375
3D body: height 0.2, standoff 0, extent -2.55,1.625 -2.45,1.875
3D body: height 0.2, standoff 0, extent -2.55,-0.375 -2.45,-0.125
3D body: height 0.2, standoff 0, extent -2.55,-0.875 -2.45,-0.625
3D body: height 0.2, standoff 0, extent -2.55,0.625 -2.45,0.875
3D body: height 0.2, standoff 0, extent -2.55,0.125 -2.45,0.375
3D body: height 0.2, standoff 0, extent 2.45,0.625 2.55,0.875
3D body: height 0.2, standoff 0, extent 2.45,0.125 2.55,0.375
3D body: height 0.2, standoff 0, extent 2.45,1.625 2.55,1.875
3D body: height 0.2, standoff 0, extent 2.45,1.125 2.55,1.375
3D body: height 0.2, standoff 0, extent 2.45,-0.875 2.55,-0.625
3D body: height 0.2, standoff 0, extent 2.45,-0.375 2.55,-0.125
3D body: height 0.2, standoff 0, extent -0.375,-2.55 -0.125,-2.45
3D body: height 0.2, standoff 0, extent -0.875,-2.55 -0.625,-2.45
3D body: height 0.2, standoff 0, extent 0.625,-2.55 0.875,-2.45
3D body: height 0.2, standoff 0, extent 0.125,-2.55 0.375,-2.45
3D body: height 0.2, standoff 0, extent -1.875,-2.55 -1.625,-2.45
3D body: height 0.2, standoff 0, extent -1.375,-2.55 -1.125,-2.45
3D body: height 0.2, standoff 0, extent 1.125,2.45 1.375,2.55
3D body: height 0.2, standoff 0, extent 1.625,2.45 1.875,2.55
3D body: height 0.2, standoff 0, extent 2.45,-1.375 2.55,-1.125
3D body: height 0.2, standoff 0, extent 2.45,-1.875 2.55,-1.625
3D body: height 0.2, standoff 0, extent 1.125,-2.55 1.375,-2.45
3D body: height 0.2, standoff 0, extent 1.625,-2.55 1.875,-2.45
3D body: height 0.2, standoff 0, extent -2.55,-1.375 -2.45,-1.125
3D body: height 0.2, standoff 0, extent -2.55,-1.875 -2.45,-1.625
3D body: height 0.8, standoff 0, extent -2.5,-2.5 2.5,2.5

## MLF32E [mm]
height 1
pads (33):
  rrect50% 0.8x0.25 smd: 1(-2.45,1.75) 2(-2.45,1.25) 3(-2.45,0.75) 4(-2.45,0.25) 5(-2.45,-0.25) 6(-2.45,-0.75) 7(-2.45,-1.25) 8(-2.45,-1.75) 17(2.45,-1.75) 18(2.45,-1.25) 19(2.45,-0.75) 20(2.45,-0.25) 21(2.45,0.25) 22(2.45,0.75) 23(2.45,1.25) 24(2.45,1.75)
  rrect50% 0.25x0.8 smd: 9(-1.75,-2.45) 10(-1.25,-2.45) 11(-0.75,-2.45) 12(-0.25,-2.45) 13(0.25,-2.45) 14(0.75,-2.45) 15(1.25,-2.45) 16(1.75,-2.45) 25(1.75,2.45) 26(1.25,2.45) 27(0.75,2.45) 28(0.25,2.45) 29(-0.25,2.45) 30(-0.75,2.45) 31(-1.25,2.45) 32(-1.75,2.45)
  rect 3.5x3.5 hole 2.5: EP(0,0)
Top Overlay:
  lines w0.3: -3,-2.3 -3,-3 -2.3,-3 ; -2.3,2.983 cw(c-2.983,2.983) -2.5,2.5 cw(c-2.983,2.983) -2.983,2.3 -3,2.3 -3,3 -2.3,3 ; 2.3,-3 3,-3 3,-2.3 ; 2.3,3 3,3 3,2.3
Mechanical 1:
  circle w0.1: c-1.4,1.4 r0.5
  lines w0.1: -2.5,-2.5 2.5,-2.5 2.5,2.5 -2.5,2.5 -2.5,-2.5
Mechanical 5:
  lines w0.1: -2.5,1.5 -1.5,1.5 -1.5,2.5 ; -2.5,-2.5 -2.5,2.5 2.5,2.5 2.5,-2.5 -2.5,-2.5
  text ".Designator" at -1.5,-1 h1.5
Mechanical 6:
  lines w0.1: -2.5,1.5 -1.5,1.5 -1.5,2.5 ; -2.5,-2.5 2.5,-2.5 2.5,2.5 -2.5,2.5 -2.5,-2.5
  text ".Comment" at -1.5,-1 h1.5
3D body: height 0.2, standoff 0, extent -2.55,-1.875 -2.45,-1.625
3D body: height 0.2, standoff 0, extent -2.55,-1.375 -2.45,-1.125
3D body: height 0.2, standoff 0, extent 1.625,-2.55 1.875,-2.45
3D body: height 0.2, standoff 0, extent 1.125,-2.55 1.375,-2.45
3D body: height 0.2, standoff 0, extent 2.45,-1.875 2.55,-1.625
3D body: height 0.2, standoff 0, extent 2.45,-1.375 2.55,-1.125
3D body: height 0.2, standoff 0, extent 1.625,2.45 1.875,2.55
3D body: height 0.2, standoff 0, extent 1.125,2.45 1.375,2.55
3D body: height 0.2, standoff 0, extent -1.375,-2.55 -1.125,-2.45
3D body: height 0.2, standoff 0, extent -1.875,-2.55 -1.625,-2.45
3D body: height 0.2, standoff 0, extent 0.125,-2.55 0.375,-2.45
3D body: height 0.2, standoff 0, extent 0.625,-2.55 0.875,-2.45
3D body: height 0.2, standoff 0, extent -0.875,-2.55 -0.625,-2.45
3D body: height 0.2, standoff 0, extent -0.375,-2.55 -0.125,-2.45
3D body: height 0.2, standoff 0, extent 2.45,-0.375 2.55,-0.125
3D body: height 0.2, standoff 0, extent 2.45,-0.875 2.55,-0.625
3D body: height 0.2, standoff 0, extent 2.45,1.125 2.55,1.375
3D body: height 0.2, standoff 0, extent 2.45,1.625 2.55,1.875
3D body: height 0.2, standoff 0, extent 2.45,0.125 2.55,0.375
3D body: height 0.2, standoff 0, extent 2.45,0.625 2.55,0.875
3D body: height 0.2, standoff 0, extent -2.55,0.125 -2.45,0.375
3D body: height 0.2, standoff 0, extent -2.55,0.625 -2.45,0.875
3D body: height 0.2, standoff 0, extent -2.55,-0.875 -2.45,-0.625
3D body: height 0.2, standoff 0, extent -2.55,-0.375 -2.45,-0.125
3D body: height 0.2, standoff 0, extent -2.55,1.625 -2.45,1.875
3D body: height 0.2, standoff 0, extent -2.55,1.125 -2.45,1.375
3D body: height 0.2, standoff 0, extent 0.125,2.45 0.375,2.55
3D body: height 0.2, standoff 0, extent 0.625,2.45 0.875,2.55
3D body: height 0.2, standoff 0, extent -1.375,2.45 -1.125,2.55
3D body: height 0.2, standoff 0, extent -1.875,2.45 -1.625,2.55
3D body: height 0.2, standoff 0, extent -0.375,2.45 -0.125,2.55
3D body: height 0.2, standoff 0, extent -0.875,2.45 -0.625,2.55
3D body: height 0.8, standoff 0, extent -2.5,-2.5 2.5,2.5

## MLF36 [mm]
height 1
pads (37):
  rrect50% 0.8x0.25 smd: 1(-2.95,2) 2(-2.95,1.5) 3(-2.95,1) 4(-2.95,0.5) 5(-2.95,0) 6(-2.95,-0.5) 7(-2.95,-1) 8(-2.95,-1.5) 9(-2.95,-2) 19(2.95,-2) 20(2.95,-1.5) 21(2.95,-1) 22(2.95,-0.5) 23(2.95,0) 24(2.95,0.5) 25(2.95,1) 26(2.95,1.5) 27(2.95,2)
  rrect50% 0.25x0.8 smd: 10(-2,-2.95) 11(-1.5,-2.95) 12(-1,-2.95) 13(-0.5,-2.95) 14(0,-2.95) 15(0.5,-2.95) 16(1,-2.95) 17(1.5,-2.95) 18(2,-2.95) 28(2,2.95) 29(1.5,2.95) 30(1,2.95) 31(0.5,2.95) 32(0,2.95) 33(-0.5,2.95) 34(-1,2.95) 35(-1.5,2.95) 36(-2,2.95)
  rect 4.25x4.25 smd paste-3: EP(0,0)
Top Overlay:
  lines w0.3: -3.5,-2.8 -3.5,-3.5 -2.8,-3.5 ; -2.8,3.483 cw(c-3.483,3.483) -3,3 cw(c-3.483,3.483) -3.483,2.8 -3.5,2.8 -3.5,3.5 -2.8,3.5 ; 2.8,-3.5 3.5,-3.5 3.5,-2.8 ; 2.8,3.5 3.5,3.5 3.5,2.8
Top Paste:
  rectangle: 0.4,0.4 1.6,1.6
  rectangle: -1.6,0.4 -0.4,1.6
  rectangle: -1.6,-1.6 -0.4,-0.4
  rectangle: 0.4,-1.6 1.6,-0.4
Mechanical 1:
  circle w0.1: c-2,2 r0.5
  lines w0.1: -3,-3 3,-3 3,3 -3,3 -3,-3
Mechanical 5:
  lines w0.1: -3,2 -2,2 -2,3 ; -3,-3 3,-3 3,3 -3,3 -3,-3
  text ".Designator" at -1.5,-1 h1.5
Mechanical 6:
  lines w0.1: -3,2 -2,2 -2,3 ; -3,-3 -3,3 3,3 3,-3 -3,-3
  text ".Comment" at -1.5,-1 h1.5
3D body: height 0.2, standoff 0, extent -1.625,-3.05 -1.375,-2.95
3D body: height 0.2, standoff 0, extent -3.05,-2.125 -2.95,-1.875
3D body: height 0.2, standoff 0, extent -2.125,-3.05 -1.875,-2.95
3D body: height 0.2, standoff 0, extent 2.95,-0.125 3.05,0.125
3D body: height 0.2, standoff 0, extent 2.95,0.875 3.05,1.125
3D body: height 0.2, standoff 0, extent 2.95,0.375 3.05,0.625
3D body: height 0.2, standoff 0, extent -2.125,2.95 -1.875,3.05
3D body: height 0.2, standoff 0, extent -1.625,2.95 -1.375,3.05
3D body: height 0.2, standoff 0, extent -1.125,2.95 -0.875,3.05
3D body: height 0.2, standoff 0, extent 2.95,-1.625 3.05,-1.375
3D body: height 0.2, standoff 0, extent 2.95,-1.125 3.05,-0.875
3D body: height 0.2, standoff 0, extent 2.95,-0.625 3.05,-0.375
3D body: height 0.2, standoff 0, extent -3.05,-1.625 -2.95,-1.375
3D body: height 0.2, standoff 0, extent -3.05,-1.125 -2.95,-0.875
3D body: height 0.2, standoff 0, extent 2.95,-2.125 3.05,-1.875
3D body: height 0.2, standoff 0, extent 1.875,-3.05 2.125,-2.95
3D body: height 0.2, standoff 0, extent 2.95,1.375 3.05,1.625
3D body: height 0.2, standoff 0, extent 2.95,1.875 3.05,2.125
3D body: height 0.2, standoff 0, extent -0.625,-3.05 -0.375,-2.95
3D body: height 0.2, standoff 0, extent -1.125,-3.05 -0.875,-2.95
3D body: height 0.2, standoff 0, extent 0.875,-3.05 1.125,-2.95
3D body: height 0.2, standoff 0, extent 1.375,-3.05 1.625,-2.95
3D body: height 0.2, standoff 0, extent -0.125,-3.05 0.125,-2.95
3D body: height 0.2, standoff 0, extent 0.375,-3.05 0.625,-2.95
3D body: height 0.2, standoff 0, extent 1.375,2.95 1.625,3.05
3D body: height 0.2, standoff 0, extent 1.875,2.95 2.125,3.05
3D body: height 0.2, standoff 0, extent -0.125,2.95 0.125,3.05
3D body: height 0.2, standoff 0, extent -0.625,2.95 -0.375,3.05
3D body: height 0.2, standoff 0, extent 0.875,2.95 1.125,3.05
3D body: height 0.2, standoff 0, extent 0.375,2.95 0.625,3.05
3D body: height 0.2, standoff 0, extent -3.05,0.375 -2.95,0.625
3D body: height 0.2, standoff 0, extent -3.05,0.875 -2.95,1.125
3D body: height 0.2, standoff 0, extent -3.05,-0.625 -2.95,-0.375
3D body: height 0.2, standoff 0, extent -3.05,-0.125 -2.95,0.125
3D body: height 0.2, standoff 0, extent -3.05,1.875 -2.95,2.125
3D body: height 0.2, standoff 0, extent -3.05,1.375 -2.95,1.625
3D body: height 0.8, standoff 0, extent -3,-3 3,3

## MLF40 [mm]
height 1
pads (41):
  rrect50% 0.8x0.25 smd: 1(-2.95,2.25) 2(-2.95,1.75) 3(-2.95,1.25) 4(-2.95,0.75) 5(-2.95,0.25) 6(-2.95,-0.25) 7(-2.95,-0.75) 8(-2.95,-1.25) 9(-2.95,-1.75) 10(-2.95,-2.25) 21(2.95,-2.25) 22(2.95,-1.75) 23(2.95,-1.25) 24(2.95,-0.75) 25(2.95,-0.25) 26(2.95,0.25) 27(2.95,0.75) 28(2.95,1.25) 29(2.95,1.75) 30(2.95,2.25)
  rrect50% 0.25x0.8 smd: 11(-2.25,-2.95) 12(-1.75,-2.95) 13(-1.25,-2.95) 14(-0.75,-2.95) 15(-0.25,-2.95) 16(0.25,-2.95) 17(0.75,-2.95) 18(1.25,-2.95) 19(1.75,-2.95) 20(2.25,-2.95) 31(2.25,2.95) 32(1.75,2.95) 33(1.25,2.95) 34(0.75,2.95) 35(0.25,2.95) 36(-0.25,2.95) 37(-0.75,2.95) 38(-1.25,2.95) 39(-1.75,2.95) 40(-2.25,2.95)
  rect 4.25x4.25 smd paste-3: EP(0,0)
Top Overlay:
  lines w0.3: -3.5,-2.75 -3.5,-3.5 -2.75,-3.5 ; 2.75,-3.5 3.5,-3.5 3.5,-2.75 ; 2.75,3.5 3.5,3.5 3.5,2.75 ; -3.5,2.75 ccw(c-3.5,3.5) -2.75,3.5 -3.5,3.5 -3.5,2.75
Top Paste:
  rectangle: 0.4,-1.6 1.6,-0.4
  rectangle: -1.6,-1.6 -0.4,-0.4
  rectangle: -1.6,0.4 -0.4,1.6
  rectangle: 0.4,0.4 1.6,1.6
Mechanical 1:
  circle w0.1: c-2,2 r0.5
  lines w0.1: -3,-3 3,-3 3,3 -3,3 -3,-3
3D body: height 0.8, standoff 0, extent -3,-3 3,3
3D body: height 0.2, standoff 0, extent -3.05,2.125 -2.95,2.375
3D body: height 0.2, standoff 0, extent -3.05,0.625 -2.95,0.875
3D body: height 0.2, standoff 0, extent -3.05,0.125 -2.95,0.375
3D body: height 0.2, standoff 0, extent -3.05,1.625 -2.95,1.875
3D body: height 0.2, standoff 0, extent -3.05,1.125 -2.95,1.375
3D body: height 0.2, standoff 0, extent -3.05,-0.375 -2.95,-0.125
3D body: height 0.2, standoff 0, extent -3.05,-0.875 -2.95,-0.625
3D body: height 0.2, standoff 0, extent -3.05,-1.875 -2.95,-1.625
3D body: height 0.2, standoff 0, extent -3.05,-1.375 -2.95,-1.125
3D body: height 0.2, standoff 0, extent -3.05,-2.375 -2.95,-2.125
3D body: height 0.2, standoff 0, extent 2.95,0.125 3.05,0.375
3D body: height 0.2, standoff 0, extent 2.95,-0.375 3.05,-0.125
3D body: height 0.2, standoff 0, extent 2.95,1.125 3.05,1.375
3D body: height 0.2, standoff 0, extent 2.95,0.625 3.05,0.875
3D body: height 0.2, standoff 0, extent 2.95,-1.375 3.05,-1.125
3D body: height 0.2, standoff 0, extent 2.95,-0.875 3.05,-0.625
3D body: height 0.2, standoff 0, extent 2.95,-1.875 3.05,-1.625
3D body: height 0.2, standoff 0, extent 2.95,-2.375 3.05,-2.125
3D body: height 0.2, standoff 0, extent 2.95,1.625 3.05,1.875
3D body: height 0.2, standoff 0, extent 2.95,2.125 3.05,2.375
3D body: height 0.2, standoff 0, extent -2.375,2.95 -2.125,3.05
3D body: height 0.2, standoff 0, extent -1.875,2.95 -1.625,3.05
3D body: height 0.2, standoff 0, extent -1.375,2.95 -1.125,3.05
3D body: height 0.2, standoff 0, extent 0.125,2.95 0.375,3.05
3D body: height 0.2, standoff 0, extent 0.625,2.95 0.875,3.05
3D body: height 0.2, standoff 0, extent -0.875,2.95 -0.625,3.05
3D body: height 0.2, standoff 0, extent -0.375,2.95 -0.125,3.05
3D body: height 0.2, standoff 0, extent 1.625,2.95 1.875,3.05
3D body: height 0.2, standoff 0, extent 1.125,2.95 1.375,3.05
3D body: height 0.2, standoff 0, extent 2.125,2.95 2.375,3.05
3D body: height 0.2, standoff 0, extent -1.875,-3.05 -1.625,-2.95
3D body: height 0.2, standoff 0, extent -2.375,-3.05 -2.125,-2.95
3D body: height 0.2, standoff 0, extent -0.875,-3.05 -0.625,-2.95
3D body: height 0.2, standoff 0, extent -1.375,-3.05 -1.125,-2.95
3D body: height 0.2, standoff 0, extent -0.375,-3.05 -0.125,-2.95
3D body: height 0.2, standoff 0, extent 0.125,-3.05 0.375,-2.95
3D body: height 0.2, standoff 0, extent 1.625,-3.05 1.875,-2.95
3D body: height 0.2, standoff 0, extent 1.125,-3.05 1.375,-2.95
3D body: height 0.2, standoff 0, extent 0.625,-3.05 0.875,-2.95
3D body: height 0.2, standoff 0, extent 2.125,-3.05 2.375,-2.95

## MLF44 [mm]
height 1
pads (45):
  rrect50% 0.8x0.25 smd: 1(-3.45,2.5) 2(-3.45,2) 3(-3.45,1.5) 4(-3.45,1) 5(-3.45,0.5) 6(-3.45,0) 7(-3.45,-0.5) 8(-3.45,-1) 9(-3.45,-1.5) 10(-3.45,-2) 11(-3.45,-2.5) 23(3.45,-2.5) 24(3.45,-2) 25(3.45,-1.5) 26(3.45,-1) 27(3.45,-0.5) 28(3.45,0) 29(3.45,0.5) 30(3.45,1) 31(3.45,1.5) 32(3.45,2) 33(3.45,2.5)
  rrect50% 0.25x0.8 smd: 12(-2.5,-3.45) 13(-2,-3.45) 14(-1.5,-3.45) 15(-1,-3.45) 16(-0.5,-3.45) 17(0,-3.45) 18(0.5,-3.45) 19(1,-3.45) 20(1.5,-3.45) 21(2,-3.45) 22(2.5,-3.45) 34(2.5,3.45) 35(2,3.45) 36(1.5,3.45) 37(1,3.45) 38(0.5,3.45) 39(0,3.45) 40(-0.5,3.45) 41(-1,3.45) 42(-1.5,3.45) 43(-2,3.45) 44(-2.5,3.45)
  rect 5.25x5.25 smd paste-3: EP(0,0)
Top Overlay:
  lines w0.3: -4,-3.3 -4,-4 -3.3,-4 ; 3.3,-4 4,-4 4,-3.3 ; 3.3,4 4,4 4,3.3 ; -4,3.25 ccw(c-4,4) -3.25,4 -4,4 -4,3.25
Top Paste:
  rectangle: -0.5,-2.1 0.5,-1.1
  rectangle: -0.5,1.1 0.5,2.1
  rectangle: -2.1,1.1 -1.1,2.1
  rectangle: -2.1,-0.5 -1.1,0.5
  rectangle: -2.1,-2.1 -1.1,-1.1
  rectangle: 1.1,-2.1 2.1,-1.1
  rectangle: 1.1,-0.5 2.1,0.5
  rectangle: 1.1,1.1 2.1,2.1
  rectangle: -0.5,-0.5 0.5,0.5
Mechanical 1:
  circle w0.1: c-2.4,2.4 r0.5
  lines w0.1: -3.5,-3.5 -3.5,3.5 3.5,3.5 3.5,-3.5 -3.5,-3.5
3D body: height 0.8, standoff 0, extent -3.5,-3.5 3.5,3.5
3D body: height 0.2, standoff 0, extent -1.625,3.45 -1.375,3.55
3D body: height 0.2, standoff 0, extent -1.125,3.45 -0.875,3.55
3D body: height 0.2, standoff 0, extent -2.625,3.45 -2.375,3.55
3D body: height 0.2, standoff 0, extent -2.125,3.45 -1.875,3.55
3D body: height 0.2, standoff 0, extent -0.125,3.45 0.125,3.55
3D body: height 0.2, standoff 0, extent -0.625,3.45 -0.375,3.55
3D body: height 0.2, standoff 0, extent -3.55,1.875 -3.45,2.125
3D body: height 0.2, standoff 0, extent -3.55,2.375 -3.45,2.625
3D body: height 0.2, standoff 0, extent -3.55,0.375 -3.45,0.625
3D body: height 0.2, standoff 0, extent -3.55,-0.125 -3.45,0.125
3D body: height 0.2, standoff 0, extent -3.55,1.375 -3.45,1.625
3D body: height 0.2, standoff 0, extent -3.55,0.875 -3.45,1.125
3D body: height 0.2, standoff 0, extent 3.45,1.375 3.55,1.625
3D body: height 0.2, standoff 0, extent 3.45,0.875 3.55,1.125
3D body: height 0.2, standoff 0, extent 3.45,2.375 3.55,2.625
3D body: height 0.2, standoff 0, extent 3.45,1.875 3.55,2.125
3D body: height 0.2, standoff 0, extent 3.45,-0.125 3.55,0.125
3D body: height 0.2, standoff 0, extent 3.45,0.375 3.55,0.625
3D body: height 0.2, standoff 0, extent -1.125,-3.55 -0.875,-3.45
3D body: height 0.2, standoff 0, extent -1.625,-3.55 -1.375,-3.45
3D body: height 0.2, standoff 0, extent -0.125,-3.55 0.125,-3.45
3D body: height 0.2, standoff 0, extent -0.625,-3.55 -0.375,-3.45
3D body: height 0.2, standoff 0, extent -2.625,-3.55 -2.375,-3.45
3D body: height 0.2, standoff 0, extent -2.125,-3.55 -1.875,-3.45
3D body: height 0.2, standoff 0, extent 0.375,3.45 0.625,3.55
3D body: height 0.2, standoff 0, extent 0.875,3.45 1.125,3.55
3D body: height 0.2, standoff 0, extent 3.45,-0.625 3.55,-0.375
3D body: height 0.2, standoff 0, extent 3.45,-1.125 3.55,-0.875
3D body: height 0.2, standoff 0, extent 0.375,-3.55 0.625,-3.45
3D body: height 0.2, standoff 0, extent 0.875,-3.55 1.125,-3.45
3D body: height 0.2, standoff 0, extent -3.55,-0.625 -3.45,-0.375
3D body: height 0.2, standoff 0, extent -3.55,-1.125 -3.45,-0.875
3D body: height 0.2, standoff 0, extent 2.375,-3.55 2.625,-3.45
3D body: height 0.2, standoff 0, extent 1.875,-3.55 2.125,-3.45
3D body: height 0.2, standoff 0, extent 1.375,-3.55 1.625,-3.45
3D body: height 0.2, standoff 0, extent 2.375,3.45 2.625,3.55
3D body: height 0.2, standoff 0, extent 1.875,3.45 2.125,3.55
3D body: height 0.2, standoff 0, extent 1.375,3.45 1.625,3.55
3D body: height 0.2, standoff 0, extent 3.45,-2.125 3.55,-1.875
3D body: height 0.2, standoff 0, extent 3.45,-1.625 3.55,-1.375
3D body: height 0.2, standoff 0, extent 3.45,-2.625 3.55,-2.375
3D body: height 0.2, standoff 0, extent -3.55,-2.125 -3.45,-1.875
3D body: height 0.2, standoff 0, extent -3.55,-1.625 -3.45,-1.375
3D body: height 0.2, standoff 0, extent -3.55,-2.625 -3.45,-2.375

## MLF48-7mm [mm]
height 1
pads (49):
  rrect50% 0.8x0.25 smd: 1(-3.45,2.75) 2(-3.45,2.25) 3(-3.45,1.75) 4(-3.45,1.25) 5(-3.45,0.75) 6(-3.45,0.25) 7(-3.45,-0.25) 8(-3.45,-0.75) 9(-3.45,-1.25) 10(-3.45,-1.75) 11(-3.45,-2.25) 12(-3.45,-2.75) 25(3.45,-2.75) 26(3.45,-2.25) 27(3.45,-1.75) 28(3.45,-1.25) 29(3.45,-0.75) 30(3.45,-0.25) 31(3.45,0.25) 32(3.45,0.75) 33(3.45,1.25) 34(3.45,1.75) 35(3.45,2.25) 36(3.45,2.75)
  rrect50% 0.25x0.8 smd: 13(-2.75,-3.45) 14(-2.25,-3.45) 15(-1.75,-3.45) 16(-1.25,-3.45) 17(-0.75,-3.45) 18(-0.25,-3.45) 19(0.25,-3.45) 20(0.75,-3.45) 21(1.25,-3.45) 22(1.75,-3.45) 23(2.25,-3.45) 24(2.75,-3.45) 37(2.75,3.45) 38(2.25,3.45) 39(1.75,3.45) 40(1.25,3.45) 41(0.75,3.45) 42(0.25,3.45) 43(-0.25,3.45) 44(-0.75,3.45) 45(-1.25,3.45) 46(-1.75,3.45) 47(-2.25,3.45) 48(-2.75,3.45)
  rect 5.25x5.25 smd paste-4: EP(0,0)
Top Overlay:
  lines w0.3: -4,-3.3 -4,-4 -3.3,-4 ; 3.3,-4 4,-4 4,-3.3 ; 3.3,4 4,4 4,3.3 ; -4,3.25 ccw(c-4,4) -3.25,4 -4,4 -4,3.25
Top Paste:
  rectangle: -0.5,-0.5 0.5,0.5
  rectangle: 1.1,1.1 2.1,2.1
  rectangle: 1.1,-0.5 2.1,0.5
  rectangle: 1.1,-2.1 2.1,-1.1
  rectangle: -2.1,-2.1 -1.1,-1.1
  rectangle: -2.1,-0.5 -1.1,0.5
  rectangle: -2.1,1.1 -1.1,2.1
  rectangle: -0.5,1.1 0.5,2.1
  rectangle: -0.5,-2.1 0.5,-1.1
Mechanical 1:
  circle w0.1: c-2.4,2.4 r0.5
  lines w0.1: -3.5,-3.5 -3.5,3.5 3.5,3.5 3.5,-3.5 -3.5,-3.5
Mechanical 5:
  lines w0.1: -3.5,2 -2,2 -2,3.5 ; -3.5,-3.5 -3.5,3.5 3.5,3.5 3.5,-3.5 -3.5,-3.5
  text ".Designator" at -1.5,-1 h1.5
Mechanical 6:
  lines w0.1: -3.5,2 -2,2 -2,3.5 ; -3.5,-3.5 3.5,-3.5 3.5,3.5 -3.5,3.5 -3.5,-3.5
  text ".Comment" at -1.5,-1 h1.5
3D body: height 0.2, standoff 0, extent -2.875,3.45 -2.625,3.55
3D body: height 0.2, standoff 0, extent -2.875,-3.55 -2.625,-3.45
3D body: height 0.2, standoff 0, extent -3.55,-2.875 -3.45,-2.625
3D body: height 0.2, standoff 0, extent 3.45,2.625 3.55,2.875
3D body: height 0.8, standoff 0, extent -3.5,-3.5 3.5,3.5
3D body: height 0.2, standoff 0, extent -1.375,3.45 -1.125,3.55
3D body: height 0.2, standoff 0, extent -0.875,3.45 -0.625,3.55
3D body: height 0.2, standoff 0, extent -2.375,3.45 -2.125,3.55
3D body: height 0.2, standoff 0, extent -1.875,3.45 -1.625,3.55
3D body: height 0.2, standoff 0, extent 0.125,3.45 0.375,3.55
3D body: height 0.2, standoff 0, extent -0.375,3.45 -0.125,3.55
3D body: height 0.2, standoff 0, extent -3.55,2.125 -3.45,2.375
3D body: height 0.2, standoff 0, extent -3.55,2.625 -3.45,2.875
3D body: height 0.2, standoff 0, extent -3.55,0.625 -3.45,0.875
3D body: height 0.2, standoff 0, extent -3.55,0.125 -3.45,0.375
3D body: height 0.2, standoff 0, extent -3.55,1.625 -3.45,1.875
3D body: height 0.2, standoff 0, extent -3.55,1.125 -3.45,1.375
3D body: height 0.2, standoff 0, extent 3.45,1.125 3.55,1.375
3D body: height 0.2, standoff 0, extent 3.45,0.625 3.55,0.875
3D body: height 0.2, standoff 0, extent 3.45,2.125 3.55,2.375
3D body: height 0.2, standoff 0, extent 3.45,1.625 3.55,1.875
3D body: height 0.2, standoff 0, extent 3.45,-0.375 3.55,-0.125
3D body: height 0.2, standoff 0, extent 3.45,0.125 3.55,0.375
3D body: height 0.2, standoff 0, extent -0.875,-3.55 -0.625,-3.45
3D body: height 0.2, standoff 0, extent -1.375,-3.55 -1.125,-3.45
3D body: height 0.2, standoff 0, extent 0.125,-3.55 0.375,-3.45
3D body: height 0.2, standoff 0, extent -0.375,-3.55 -0.125,-3.45
3D body: height 0.2, standoff 0, extent -2.375,-3.55 -2.125,-3.45
3D body: height 0.2, standoff 0, extent -1.875,-3.55 -1.625,-3.45
3D body: height 0.2, standoff 0, extent 0.625,3.45 0.875,3.55
3D body: height 0.2, standoff 0, extent 1.125,3.45 1.375,3.55
3D body: height 0.2, standoff 0, extent 3.45,-0.875 3.55,-0.625
3D body: height 0.2, standoff 0, extent 3.45,-1.375 3.55,-1.125
3D body: height 0.2, standoff 0, extent 0.625,-3.55 0.875,-3.45
3D body: height 0.2, standoff 0, extent 1.125,-3.55 1.375,-3.45
3D body: height 0.2, standoff 0, extent -3.55,-0.375 -3.45,-0.125
3D body: height 0.2, standoff 0, extent -3.55,-0.875 -3.45,-0.625
3D body: height 0.2, standoff 0, extent 2.625,-3.55 2.875,-3.45
3D body: height 0.2, standoff 0, extent 2.125,-3.55 2.375,-3.45
3D body: height 0.2, standoff 0, extent 1.625,-3.55 1.875,-3.45
3D body: height 0.2, standoff 0, extent 2.625,3.45 2.875,3.55
3D body: height 0.2, standoff 0, extent 2.125,3.45 2.375,3.55
3D body: height 0.2, standoff 0, extent 1.625,3.45 1.875,3.55
3D body: height 0.2, standoff 0, extent 3.45,-2.375 3.55,-2.125
3D body: height 0.2, standoff 0, extent 3.45,-1.875 3.55,-1.625
3D body: height 0.2, standoff 0, extent 3.45,-2.875 3.55,-2.625
3D body: height 0.2, standoff 0, extent -3.55,-1.875 -3.45,-1.625
3D body: height 0.2, standoff 0, extent -3.55,-1.375 -3.45,-1.125
3D body: height 0.2, standoff 0, extent -3.55,-2.375 -3.45,-2.125